# Altium footprint library WANGYU92100PcbLib.PcbLib: 392 footprints (part 11 of 25)
Each footprint in its own frame and in the unit in brackets; x right, y up, seen from the top. Pads: shape width x height; smd on the part's side, far side on the other; paste and mask are expansions set on the pad; w line width, h text height; cw(c..) or ccw(c..) is an arc to the next point about the centre after c.
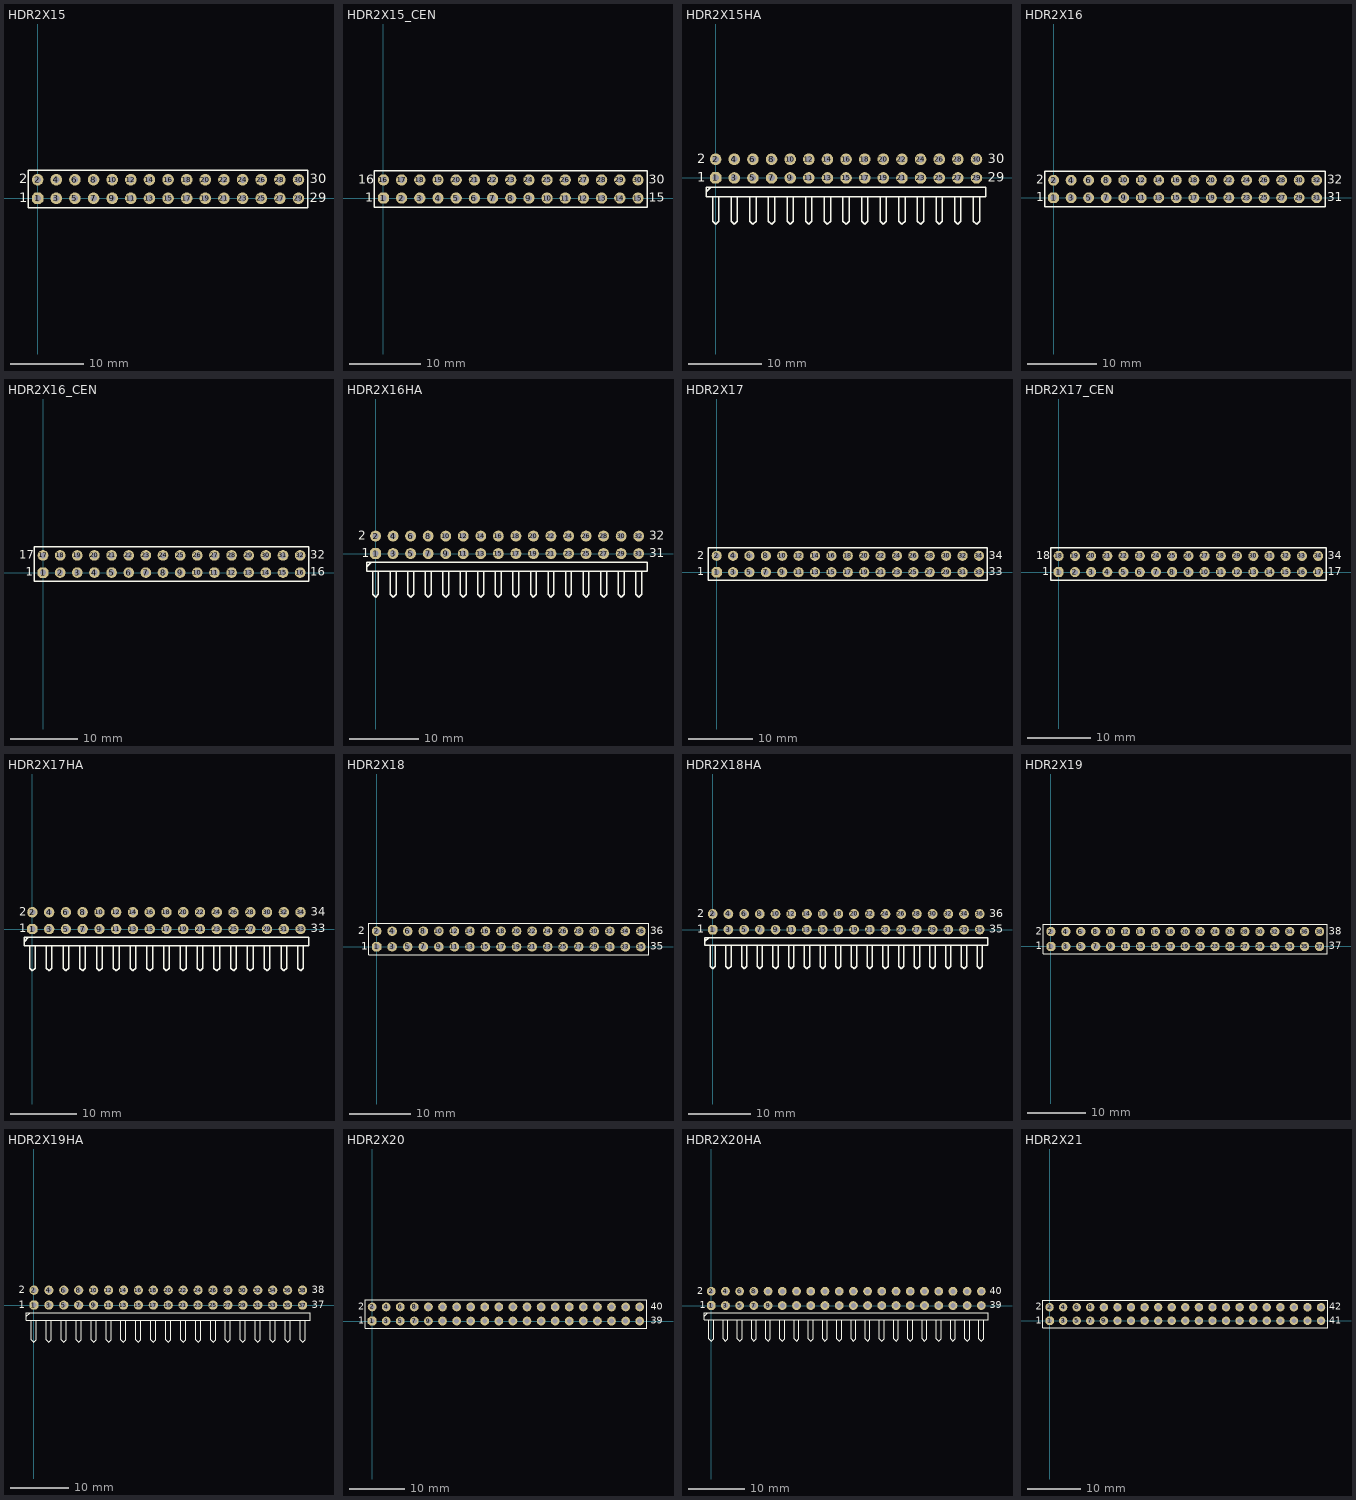
[diagram p10: the footprints below, top view; thin cyan lines are the x and y axes]

## HDR2X15 [mil]
pads (30):
  oct 62x62 hole 35: 1(0,0)
  round 62 hole 35: 2(0,100) 3(100,0) 4(100,100) 5(200,0) 6(200,100) 7(300,0) 8(300,100) 9(400,0) 10(400,100) 11(500,0) 12(500,100) 13(600,0) 14(600,100) 15(700,0) 16(700,100) 17(800,0) 18(800,100) 19(900,0) 20(900,100) 21(1000,0) 22(1000,100) 23(1100,0) 24(1100,100) 25(1200,0) 26(1200,100) 27(1300,0) 28(1300,100) 29(1400,0) 30(1400,100)
Top Overlay:
  lines w8: -50,-50 1450,-50 1450,150 -50,150 -50,-50
  text "1" at -100,-20 h50
  text "2" at -100,80 h50
  text "29" at 1460,-20 h50
  text "30" at 1460,80 h50

## HDR2X15_CEN [mil]
pads (30):
  oct 62x62 hole 35: 1(0,0)
  round 62 hole 35: 2(100,0) 3(200,0) 4(300,0) 5(400,0) 6(500,0) 7(600,0) 8(700,0) 9(800,0) 10(900,0) 11(1000,0) 12(1100,0) 13(1200,0) 14(1300,0) 15(1400,0) 16(0,100) 17(100,100) 18(200,100) 19(300,100) 20(400,100) 21(500,100) 22(600,100) 23(700,100) 24(800,100) 25(900,100) 26(1000,100) 27(1100,100) 28(1200,100) 29(1300,100) 30(1400,100)
Top Overlay:
  lines w8: -50,-50 -50,150 1450,150 1450,-50 -50,-50
  text "16" at -140,80 h50
  text "1" at -100,-20 h50
  text "15" at 1460,-20 h50
  text "30" at 1460,80 h50

## HDR2X15HA [mil]
pads (30):
  oct 62x62 hole 35: 1(0,0)
  round 62 hole 35: 2(0,100) 3(100,0) 4(100,100) 5(200,0) 6(200,100) 7(300,0) 8(300,100) 9(400,0) 10(400,100) 11(500,0) 12(500,100) 13(600,0) 14(600,100) 15(700,0) 16(700,100) 17(800,0) 18(800,100) 19(900,0) 20(900,100) 21(1000,0) 22(1000,100) 23(1100,0) 24(1100,100) 25(1200,0) 26(1200,100) 27(1300,0) 28(1300,100) 29(1400,0) 30(1400,100)
Top Overlay:
  lines w8: -50,-75 -25,-50 ; -16.67,-100 -16.67,-233.33 0,-250 16.67,-233.33 16.67,-100 ; 83.33,-100 83.33,-233.33 100,-250 116.67,-233.33 116.67,-100 ; 183.33,-100 183.33,-233.33 200,-250 216.67,-233.33 216.67,-100 ; 283.33,-100 283.33,-233.33 300,-250 316.67,-233.33 316.67,-100 ; 383.33,-100 383.33,-233.33 400,-250 416.67,-233.33 416.67,-100 ; 483.33,-100 483.33,-233.33 500,-250 516.67,-233.33 516.67,-100 ; 583.33,-100 583.33,-233.33 600,-250 616.67,-233.33 616.67,-100 ; 683.33,-100 683.33,-233.33 700,-250 716.67,-233.33 716.67,-100 ; 783.33,-100 783.33,-233.33 800,-250 816.67,-233.33 816.67,-100 ; 883.33,-100 883.33,-233.33 900,-250 916.67,-233.33 916.67,-100 ; 983.33,-100 983.33,-233.33 1000,-250 1016.67,-233.33 1016.67,-100 ; 1083.33,-100 1083.33,-233.33 1100,-250 1116.67,-233.33 1116.67,-100 ; 1183.33,-100 1183.33,-233.33 1200,-250 1216.67,-233.33 1216.67,-100 ; 1283.33,-100 1283.33,-233.33 1300,-250 1316.67,-233.33 1316.67,-100 ; 1383.33,-100 1383.33,-233.33 1400,-250 1416.67,-233.33 1416.67,-100 ; -50,-100 1450,-100 1450,-50 -50,-50 -50,-100
  text "2" at -100,80 h50
  text "1" at -100,-20 h50
  text "29" at 1460,-20 h50
  text "30" at 1460,80 h50

## HDR2X16 [mil]
pads (32):
  oct 62x62 hole 35: 1(0,0)
  round 62 hole 35: 2(0,100) 3(100,0) 4(100,100) 5(200,0) 6(200,100) 7(300,0) 8(300,100) 9(400,0) 10(400,100) 11(500,0) 12(500,100) 13(600,0) 14(600,100) 15(700,0) 16(700,100) 17(800,0) 18(800,100) 19(900,0) 20(900,100) 21(1000,0) 22(1000,100) 23(1100,0) 24(1100,100) 25(1200,0) 26(1200,100) 27(1300,0) 28(1300,100) 29(1400,0) 30(1400,100) 31(1500,0) 32(1500,100)
Top Overlay:
  lines w8: -50,-50 1550,-50 1550,150 -50,150 -50,-50
  text "2" at -100,80 h50
  text "1" at -100,-20 h50
  text "31" at 1560,-20 h50
  text "32" at 1560,80 h50

## HDR2X16_CEN [mil]
pads (32):
  oct 62x62 hole 35: 1(0,0)
  round 62 hole 35: 2(100,0) 3(200,0) 4(300,0) 5(400,0) 6(500,0) 7(600,0) 8(700,0) 9(800,0) 10(900,0) 11(1000,0) 12(1100,0) 13(1200,0) 14(1300,0) 15(1400,0) 16(1500,0) 17(0,100) 18(100,100) 19(200,100) 20(300,100) 21(400,100) 22(500,100) 23(600,100) 24(700,100) 25(800,100) 26(900,100) 27(1000,100) 28(1100,100) 29(1200,100) 30(1300,100) 31(1400,100) 32(1500,100)
Top Overlay:
  lines w8: -50,-50 -50,150 1550,150 1550,-50 -50,-50
  text "32" at 1560,80 h50
  text "16" at 1560,-20 h50
  text "1" at -100,-20 h50
  text "17" at -140,80 h50

## HDR2X16HA [mil]
pads (32):
  oct 62x62 hole 35: 1(0,0)
  round 62 hole 35: 2(0,100) 3(100,0) 4(100,100) 5(200,0) 6(200,100) 7(300,0) 8(300,100) 9(400,0) 10(400,100) 11(500,0) 12(500,100) 13(600,0) 14(600,100) 15(700,0) 16(700,100) 17(800,0) 18(800,100) 19(900,0) 20(900,100) 21(1000,0) 22(1000,100) 23(1100,0) 24(1100,100) 25(1200,0) 26(1200,100) 27(1300,0) 28(1300,100) 29(1400,0) 30(1400,100) 31(1500,0) 32(1500,100)
Top Overlay:
  lines w8: -50,-75 -25,-50 ; -16.67,-100 -16.67,-233.33 0,-250 16.67,-233.33 16.67,-100 ; 83.33,-100 83.33,-233.33 100,-250 116.67,-233.33 116.67,-100 ; 183.33,-100 183.33,-233.33 200,-250 216.67,-233.33 216.67,-100 ; 283.33,-100 283.33,-233.33 300,-250 316.67,-233.33 316.67,-100 ; 383.33,-100 383.33,-233.33 400,-250 416.67,-233.33 416.67,-100 ; 483.33,-100 483.33,-233.33 500,-250 516.67,-233.33 516.67,-100 ; 583.33,-100 583.33,-233.33 600,-250 616.67,-233.33 616.67,-100 ; 683.33,-100 683.33,-233.33 700,-250 716.67,-233.33 716.67,-100 ; 783.33,-100 783.33,-233.33 800,-250 816.67,-233.33 816.67,-100 ; 883.33,-100 883.33,-233.33 900,-250 916.67,-233.33 916.67,-100 ; 983.33,-100 983.33,-233.33 1000,-250 1016.67,-233.33 1016.67,-100 ; 1083.33,-100 1083.33,-233.33 1100,-250 1116.67,-233.33 1116.67,-100 ; 1183.33,-100 1183.33,-233.33 1200,-250 1216.67,-233.33 1216.67,-100 ; 1283.33,-100 1283.33,-233.33 1300,-250 1316.67,-233.33 1316.67,-100 ; 1383.33,-100 1383.33,-233.33 1400,-250 1416.67,-233.33 1416.67,-100 ; 1483.33,-100 1483.33,-233.33 1500,-250 1516.67,-233.33 1516.67,-100 ; -50,-100 -50,-50 1550,-50 1550,-100 -50,-100
  text "2" at -100,80 h50
  text "1" at -80,-20 h50
  text "31" at 1560,-20 h50
  text "32" at 1560,80 h50

## HDR2X17 [mil]
pads (34):
  oct 62x62 hole 35: 1(0,0)
  round 62 hole 35: 2(0,100) 3(100,0) 4(100,100) 5(200,0) 6(200,100) 7(300,0) 8(300,100) 9(400,0) 10(400,100) 11(500,0) 12(500,100) 13(600,0) 14(600,100) 15(700,0) 16(700,100) 17(800,0) 18(800,100) 19(900,0) 20(900,100) 21(1000,0) 22(1000,100) 23(1100,0) 24(1100,100) 25(1200,0) 26(1200,100) 27(1300,0) 28(1300,100) 29(1400,0) 30(1400,100) 31(1500,0) 32(1500,100) 33(1600,0) 34(1600,100)
Top Overlay:
  lines w8: -50,-50 -50,150 1650,150 1650,-50 -50,-50
  text "2" at -120,80 h50
  text "1" at -120,-20 h50
  text "33" at 1660,-20 h50
  text "34" at 1660,80 h50

## HDR2X17_CEN [mil]
pads (34):
  oct 62x62 hole 35: 1(0,0)
  round 62 hole 35: 2(100,0) 3(200,0) 4(300,0) 5(400,0) 6(500,0) 7(600,0) 8(700,0) 9(800,0) 10(900,0) 11(1000,0) 12(1100,0) 13(1200,0) 14(1300,0) 15(1400,0) 16(1500,0) 17(1600,0) 18(0,100) 19(100,100) 20(200,100) 21(300,100) 22(400,100) 23(500,100) 24(600,100) 25(700,100) 26(800,100) 27(900,100) 28(1000,100) 29(1100,100) 30(1200,100) 31(1300,100) 32(1400,100) 33(1500,100) 34(1600,100)
Top Overlay:
  lines w8: -50,-50 -50,150 1650,150 1650,-50 -50,-50
  text "34" at 1660,80 h50
  text "17" at 1660,-20 h50
  text "1" at -100,-20 h50
  text "18" at -140,80 h50

## HDR2X17HA [mil]
pads (34):
  oct 62x62 hole 35: 1(0,0)
  round 62 hole 35: 2(0,100) 3(100,0) 4(100,100) 5(200,0) 6(200,100) 7(300,0) 8(300,100) 9(400,0) 10(400,100) 11(500,0) 12(500,100) 13(600,0) 14(600,100) 15(700,0) 16(700,100) 17(800,0) 18(800,100) 19(900,0) 20(900,100) 21(1000,0) 22(1000,100) 23(1100,0) 24(1100,100) 25(1200,0) 26(1200,100) 27(1300,0) 28(1300,100) 29(1400,0) 30(1400,100) 31(1500,0) 32(1500,100) 33(1600,0) 34(1600,100)
Top Overlay:
  lines w8: -50,-75 -25,-50 ; -16.67,-100 -16.67,-233.33 0,-250 16.67,-233.33 16.67,-100 ; 83.33,-100 83.33,-233.33 100,-250 116.67,-233.33 116.67,-100 ; 183.33,-100 183.33,-233.33 200,-250 216.67,-233.33 216.67,-100 ; 283.33,-100 283.33,-233.33 300,-250 316.67,-233.33 316.67,-100 ; 383.33,-100 383.33,-233.33 400,-250 416.67,-233.33 416.67,-100 ; 483.33,-100 483.33,-233.33 500,-250 516.67,-233.33 516.67,-100 ; 583.33,-100 583.33,-233.33 600,-250 616.67,-233.33 616.67,-100 ; 683.33,-100 683.33,-233.33 700,-250 716.67,-233.33 716.67,-100 ; 783.33,-100 783.33,-233.33 800,-250 816.67,-233.33 816.67,-100 ; 883.33,-100 883.33,-233.33 900,-250 916.67,-233.33 916.67,-100 ; 983.33,-100 983.33,-233.33 1000,-250 1016.67,-233.33 1016.67,-100 ; 1083.33,-100 1083.33,-233.33 1100,-250 1116.67,-233.33 1116.67,-100 ; 1183.33,-100 1183.33,-233.33 1200,-250 1216.67,-233.33 1216.67,-100 ; 1283.33,-100 1283.33,-233.33 1300,-250 1316.67,-233.33 1316.67,-100 ; 1383.33,-100 1383.33,-233.33 1400,-250 1416.67,-233.33 1416.67,-100 ; 1483.33,-100 1483.33,-233.33 1500,-250 1516.67,-233.33 1516.67,-100 ; 1583.33,-100 1583.33,-233.33 1600,-250 1616.67,-233.33 1616.67,-100 ; -50,-100 -50,-50 1650,-50 1650,-100 -50,-100
  text "34" at 1660,80 h50
  text "33" at 1660,-20 h50
  text "1" at -80,-20 h50
  text "2" at -80,80 h50

## HDR2X18 [mil]
pads (36):
  oct 62x62 hole 35: 1(0,0)
  round 62 hole 35: 2(0,100) 3(100,0) 4(100,100) 5(200,0) 6(200,100) 7(300,0) 8(300,100) 9(400,0) 10(400,100) 11(500,0) 12(500,100) 13(600,0) 14(600,100) 15(700,0) 16(700,100) 17(800,0) 18(800,100) 19(900,0) 20(900,100) 21(1000,0) 22(1000,100) 23(1100,0) 24(1100,100) 25(1200,0) 26(1200,100) 27(1300,0) 28(1300,100) 29(1400,0) 30(1400,100) 31(1500,0) 32(1500,100) 33(1600,0) 34(1600,100) 35(1700,0) 36(1700,100)
Top Overlay:
  lines w8: -50,-50 1750,-50 1750,150 -50,150 -50,-50
  text "36" at 1760,80 h50
  text "35" at 1760,-20 h50
  text "1" at -100,-20 h50
  text "2" at -120,80 h50

## HDR2X18HA [mil]
pads (36):
  oct 62x62 hole 35: 1(0,0)
  round 62 hole 35: 2(0,100) 3(100,0) 4(100,100) 5(200,0) 6(200,100) 7(300,0) 8(300,100) 9(400,0) 10(400,100) 11(500,0) 12(500,100) 13(600,0) 14(600,100) 15(700,0) 16(700,100) 17(800,0) 18(800,100) 19(900,0) 20(900,100) 21(1000,0) 22(1000,100) 23(1100,0) 24(1100,100) 25(1200,0) 26(1200,100) 27(1300,0) 28(1300,100) 29(1400,0) 30(1400,100) 31(1500,0) 32(1500,100) 33(1600,0) 34(1600,100) 35(1700,0) 36(1700,100)
Top Overlay:
  lines w8: -50,-75 -25,-50 ; -16.67,-100 -16.67,-233.33 0,-250 16.67,-233.33 16.67,-100 ; 83.33,-100 83.33,-233.33 100,-250 116.67,-233.33 116.67,-100 ; 183.33,-100 183.33,-233.33 200,-250 216.67,-233.33 216.67,-100 ; 283.33,-100 283.33,-233.33 300,-250 316.67,-233.33 316.67,-100 ; 383.33,-100 383.33,-233.33 400,-250 416.67,-233.33 416.67,-100 ; 483.33,-100 483.33,-233.33 500,-250 516.67,-233.33 516.67,-100 ; 583.33,-100 583.33,-233.33 600,-250 616.67,-233.33 616.67,-100 ; 683.33,-100 683.33,-233.33 700,-250 716.67,-233.33 716.67,-100 ; 783.33,-100 783.33,-233.33 800,-250 816.67,-233.33 816.67,-100 ; 883.33,-100 883.33,-233.33 900,-250 916.67,-233.33 916.67,-100 ; 983.33,-100 983.33,-233.33 1000,-250 1016.67,-233.33 1016.67,-100 ; 1083.33,-100 1083.33,-233.33 1100,-250 1116.67,-233.33 1116.67,-100 ; 1183.33,-100 1183.33,-233.33 1200,-250 1216.67,-233.33 1216.67,-100 ; 1283.33,-100 1283.33,-233.33 1300,-250 1316.67,-233.33 1316.67,-100 ; 1383.33,-100 1383.33,-233.33 1400,-250 1416.67,-233.33 1416.67,-100 ; 1483.33,-100 1483.33,-233.33 1500,-250 1516.67,-233.33 1516.67,-100 ; 1583.33,-100 1583.33,-233.33 1600,-250 1616.67,-233.33 1616.67,-100 ; 1683.33,-100 1683.33,-233.33 1700,-250 1716.67,-233.33 1716.67,-100 ; -50,-100 1750,-100 1750,-50 -50,-50 -50,-100
  text "1" at -100,-20 h50
  text "2" at -100,80 h50
  text "36" at 1760,80 h50
  text "35" at 1760,-20 h50

## HDR2X19 [mil]
pads (38):
  oct 62x62 hole 35: 1(0,0)
  round 62 hole 35: 2(0,100) 3(100,0) 4(100,100) 5(200,0) 6(200,100) 7(300,0) 8(300,100) 9(400,0) 10(400,100) 11(500,0) 12(500,100) 13(600,0) 14(600,100) 15(700,0) 16(700,100) 17(800,0) 18(800,100) 19(900,0) 20(900,100) 21(1000,0) 22(1000,100) 23(1100,0) 24(1100,100) 25(1200,0) 26(1200,100) 27(1300,0) 28(1300,100) 29(1400,0) 30(1400,100) 31(1500,0) 32(1500,100) 33(1600,0) 34(1600,100) 35(1700,0) 36(1700,100) 37(1800,0) 38(1800,100)
Top Overlay:
  lines w8: -50,-50 -50,150 1850,150 1850,-50 -50,-50
  text "38" at 1860,80 h50
  text "37" at 1860,-20 h50
  text "1" at -100,-20 h50
  text "2" at -100,80 h50

## HDR2X19HA [mil]
pads (38):
  oct 62x62 hole 35: 1(0,0)
  round 62 hole 35: 2(0,100) 3(100,0) 4(100,100) 5(200,0) 6(200,100) 7(300,0) 8(300,100) 9(400,0) 10(400,100) 11(500,0) 12(500,100) 13(600,0) 14(600,100) 15(700,0) 16(700,100) 17(800,0) 18(800,100) 19(900,0) 20(900,100) 21(1000,0) 22(1000,100) 23(1100,0) 24(1100,100) 25(1200,0) 26(1200,100) 27(1300,0) 28(1300,100) 29(1400,0) 30(1400,100) 31(1500,0) 32(1500,100) 33(1600,0) 34(1600,100) 35(1700,0) 36(1700,100) 37(1800,0) 38(1800,100)
Top Overlay:
  lines w8: -50,-75 -25,-50 ; -16.67,-100 -16.67,-233.33 0,-250 16.67,-233.33 16.67,-100 ; 83.33,-100 83.33,-233.33 100,-250 116.67,-233.33 116.67,-100 ; 183.33,-100 183.33,-233.33 200,-250 216.67,-233.33 216.67,-100 ; 283.33,-100 283.33,-233.33 300,-250 316.67,-233.33 316.67,-100 ; 383.33,-100 383.33,-233.33 400,-250 416.67,-233.33 416.67,-100 ; 483.33,-100 483.33,-233.33 500,-250 516.67,-233.33 516.67,-100 ; 583.33,-100 583.33,-233.33 600,-250 616.67,-233.33 616.67,-100 ; 683.33,-100 683.33,-233.33 700,-250 716.67,-233.33 716.67,-100 ; 783.33,-100 783.33,-233.33 800,-250 816.67,-233.33 816.67,-100 ; 883.33,-100 883.33,-233.33 900,-250 916.67,-233.33 916.67,-100 ; 983.33,-100 983.33,-233.33 1000,-250 1016.67,-233.33 1016.67,-100 ; 1083.33,-100 1083.33,-233.33 1100,-250 1116.67,-233.33 1116.67,-100 ; 1183.33,-100 1183.33,-233.33 1200,-250 1216.67,-233.33 1216.67,-100 ; 1283.33,-100 1283.33,-233.33 1300,-250 1316.67,-233.33 1316.67,-100 ; 1383.33,-100 1383.33,-233.33 1400,-250 1416.67,-233.33 1416.67,-100 ; 1483.33,-100 1483.33,-233.33 1500,-250 1516.67,-233.33 1516.67,-100 ; 1583.33,-100 1583.33,-233.33 1600,-250 1616.67,-233.33 1616.67,-100 ; 1683.33,-100 1683.33,-233.33 1700,-250 1716.67,-233.33 1716.67,-100 ; 1783.33,-100 1783.33,-233.33 1800,-250 1816.67,-233.33 1816.67,-100 ; -50,-100 -50,-50 1850,-50 1850,-100 -50,-100
  text "2" at -100,80 h50
  text "1" at -100,-20 h50
  text "37" at 1860,-20 h50
  text "38" at 1860,80 h50

## HDR2X20 [mil]
pads (40):
  oct 62x62 hole 35: 1(0,0)
  round 62 hole 35: 2(0,100) 3(100,0) 4(100,100) 5(200,0) 6(200,100) 7(300,0) 8(300,100) 9(400,0) 10(400,100) 11(500,0) 12(500,100) 13(600,0) 14(600,100) 15(700,0) 16(700,100) 17(800,0) 18(800,100) 19(900,0) 20(900,100) 21(1000,0) 22(1000,100) 23(1100,0) 24(1100,100) 25(1200,0) 26(1200,100) 27(1300,0) 28(1300,100) 29(1400,0) 30(1400,100) 31(1500,0) 32(1500,100) 33(1600,0) 34(1600,100) 35(1700,0) 36(1700,100) 37(1800,0) 38(1800,100) 39(1900,0) 40(1900,100)
Top Overlay:
  lines w8: -50,-50 1950,-50 1950,150 -50,150 -50,-50
  text "1" at -100,-20 h50
  text "2" at -100,80 h50
  text "40" at 1980,80 h50
  text "39" at 1980,-20 h50

## HDR2X20HA [mil]
pads (40):
  oct 62x62 hole 35: 1(0,0)
  round 62 hole 35: 2(0,100) 3(100,0) 4(100,100) 5(200,0) 6(200,100) 7(300,0) 8(300,100) 9(400,0) 10(400,100) 11(500,0) 12(500,100) 13(600,0) 14(600,100) 15(700,0) 16(700,100) 17(800,0) 18(800,100) 19(900,0) 20(900,100) 21(1000,0) 22(1000,100) 23(1100,0) 24(1100,100) 25(1200,0) 26(1200,100) 27(1300,0) 28(1300,100) 29(1400,0) 30(1400,100) 31(1500,0) 32(1500,100) 33(1600,0) 34(1600,100) 35(1700,0) 36(1700,100) 37(1800,0) 38(1800,100) 39(1900,0) 40(1900,100)
Top Overlay:
  lines w8: -50,-75 -25,-50 ; -16.67,-100 -16.67,-233.33 0,-250 16.67,-233.33 16.67,-100 ; 83.33,-100 83.33,-233.33 100,-250 116.67,-233.33 116.67,-100 ; 183.33,-100 183.33,-233.33 200,-250 216.67,-233.33 216.67,-100 ; 283.33,-100 283.33,-233.33 300,-250 316.67,-233.33 316.67,-100 ; 383.33,-100 383.33,-233.33 400,-250 416.67,-233.33 416.67,-100 ; 483.33,-100 483.33,-233.33 500,-250 516.67,-233.33 516.67,-100 ; 583.33,-100 583.33,-233.33 600,-250 616.67,-233.33 616.67,-100 ; 683.33,-100 683.33,-233.33 700,-250 716.67,-233.33 716.67,-100 ; 783.33,-100 783.33,-233.33 800,-250 816.67,-233.33 816.67,-100 ; 883.33,-100 883.33,-233.33 900,-250 916.67,-233.33 916.67,-100 ; 983.33,-100 983.33,-233.33 1000,-250 1016.67,-233.33 1016.67,-100 ; 1083.33,-100 1083.33,-233.33 1100,-250 1116.67,-233.33 1116.67,-100 ; 1183.33,-100 1183.33,-233.33 1200,-250 1216.67,-233.33 1216.67,-100 ; 1283.33,-100 1283.33,-233.33 1300,-250 1316.67,-233.33 1316.67,-100 ; 1383.33,-100 1383.33,-233.33 1400,-250 1416.67,-233.33 1416.67,-100 ; 1483.33,-100 1483.33,-233.33 1500,-250 1516.67,-233.33 1516.67,-100 ; 1583.33,-100 1583.33,-233.33 1600,-250 1616.67,-233.33 1616.67,-100 ; 1683.33,-100 1683.33,-233.33 1700,-250 1716.67,-233.33 1716.67,-100 ; 1783.33,-100 1783.33,-233.33 1800,-250 1816.67,-233.33 1816.67,-100 ; 1883.33,-100 1883.33,-233.33 1900,-250 1916.67,-233.33 1916.67,-100 ; -50,-100 1950,-100 1950,-50 -50,-50 -50,-100
  text "2" at -100,80 h50
  text "1" at -80,-20 h50
  text "39" at 1960,-20 h50
  text "40" at 1960,80 h50

## HDR2X21 [mil]
pads (42):
  oct 62x62 hole 35: 1(0,0)
  round 62 hole 35: 2(0,100) 3(100,0) 4(100,100) 5(200,0) 6(200,100) 7(300,0) 8(300,100) 9(400,0) 10(400,100) 11(500,0) 12(500,100) 13(600,0) 14(600,100) 15(700,0) 16(700,100) 17(800,0) 18(800,100) 19(900,0) 20(900,100) 21(1000,0) 22(1000,100) 23(1100,0) 24(1100,100) 25(1200,0) 26(1200,100) 27(1300,0) 28(1300,100) 29(1400,0) 30(1400,100) 31(1500,0) 32(1500,100) 33(1600,0) 34(1600,100) 35(1700,0) 36(1700,100) 37(1800,0) 38(1800,100) 39(1900,0) 40(1900,100) 41(2000,0) 42(2000,100)
Top Overlay:
  lines w8: -50,-50 2050,-50 2050,150 -50,150 -50,-50
  text "2" at -100,80 h50
  text "1" at -100,-20 h50
  text "41" at 2060,-20 h50
  text "42" at 2060,80 h50